# EAGLE library part RPI-ZERO (library CM_connectors)
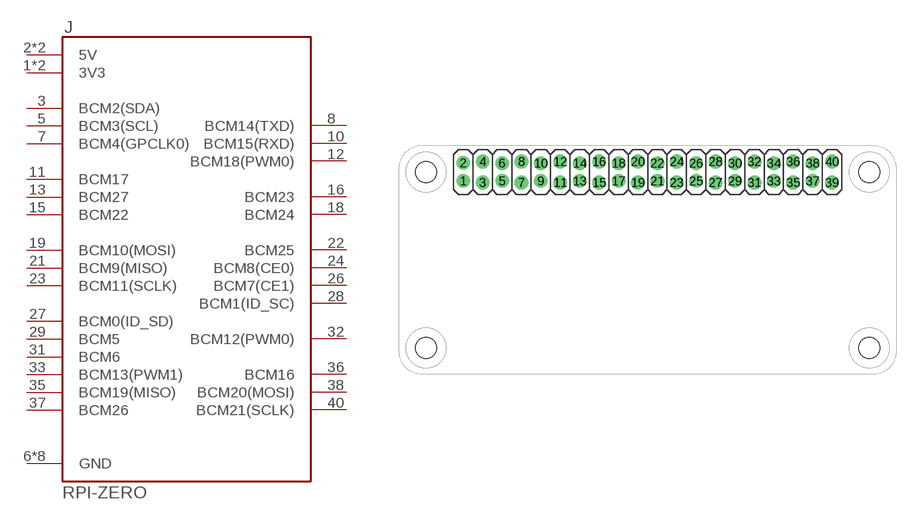
[diagram p0: symbol with the pads of 2X20-OFFSET; footprint 2X20-OFFSET]

Designator prefix J

## RPI-ZERO  [2X20-OFFSET]
1  3V3
2  5V
3  BCM2(SDA)
4  5V
5  BCM3(SCL)
6  GND
7  BCM4(GPCLK0)
8  BCM14(TXD)
9  GND
10  BCM15(RXD)
11  BCM17
12  BCM18(PWM0)
13  BCM27
14  GND
15  BCM22
16  BCM23
17  3V3
18  BCM24
19  BCM10(MOSI)
20  GND
21  BCM9(MISO)
22  BCM25
23  BCM11(SCLK)
24  BCM8(CE0)
25  GND
26  BCM7(CE1)
27  BCM0(ID_SD)
28  BCM1(ID_SC)
29  BCM5
30  GND
31  BCM6
32  BCM12(PWM0)
33  BCM13(PWM1)
34  GND
35  BCM19(MISO)
36  BCM16
37  BCM26
38  BCM20(MOSI)
39  GND
40  BCM21(SCLK)

## Footprint 2X20-OFFSET (pad centres in mm)
drill 1.016 pad 1.778: 1 -24.13,-1.168; 2 -24.13,1.194; 3 -21.59,-1.372; 4 -21.59,1.372; 5 -19.05,-1.168; 6 -19.05,1.168; 7 -16.51,-1.372; 8 -16.51,1.372; 9 -13.97,-1.168; 10 -13.97,1.168; 11 -11.43,-1.372; 12 -11.43,1.372; 13 -8.89,-1.168; 14 -8.89,1.168; 15 -6.35,-1.372; 16 -6.35,1.372; 17 -3.81,-1.168; 18 -3.81,1.168; 19 -1.27,-1.372; 20 -1.27,1.372; 21 1.27,-1.168; 22 1.27,1.168; 23 3.81,-1.372; 24 3.81,1.372; 25 6.35,-1.168; 26 6.35,1.168; 27 8.89,-1.372; 28 8.89,1.372; 29 11.43,-1.168; 30 11.43,1.168; 31 13.97,-1.372; 32 13.97,1.372; 33 16.51,-1.168; 34 16.51,1.168; 35 19.05,-1.372; 36 19.05,1.372; 37 21.59,-1.168; 38 21.59,1.168; 39 24.13,-1.372; 40 24.13,1.372
hole 2.75 at -29,0
hole 2.75 at 29,0
hole 2.75 at -29,-23
hole 2.75 at 29,-23